# Altium schematic symbol library ARJM11A1-009.Schlib: 1 symbol
Pins are listed as number, name and electrical type; pins without a type are passive.

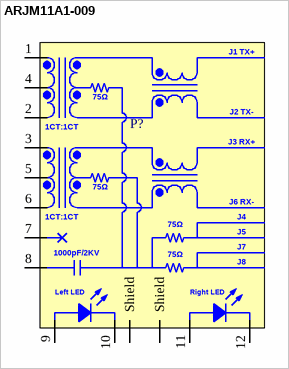
[diagram p0: symbol ARJM11A1-009]

## ARJM11A1-009
designator P?
RJ45, Single Port, 10/100 Base-T Magnetics Module
pins: 1 TD+, 2 TD-, 3 RD+, 4 CT, 5 CT, 6 RD-, 7 NC, 8 GND, 9 A, 10 K, 11 A, 12 K, S1 Shield, S2 Shield
text: J1 TX+; 75Ω; J2 TX-; 1CT:1CT; J3 RX+; J6 RX-; J4; J5; 1000pF/2KV; J7; J8; Left LED; Right LED